# EAGLE library part TPS2115A (library Power > Hot Swap Voltage Controllers)
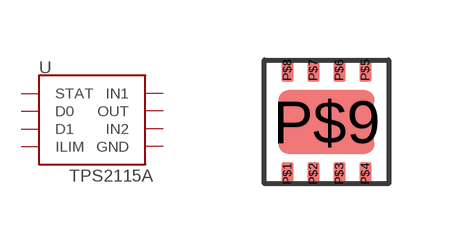
[diagram p1: symbol with the pads of DRB-8; footprint DRB-8]

Designator prefix U

## TPS2115A  [DRB-8]
P$1  STAT
P$2  D0
P$3  D1
P$4  ILIM
P$5  GND
P$6  IN2
P$7  OUT
P$8  IN1
P$9  GND

## Footprint DRB-8 (pad centres in mm)
smd 0.3 x 0.6: P$1 -0.975,-1.3; P$2 -0.325,-1.3; P$3 0.325,-1.3; P$4 0.975,-1.3; P$5 0.975,1.3; P$6 0.325,1.3; P$7 -0.325,1.3; P$8 -0.975,1.3
smd 2.4 x 1.6: P$9 0,0